# EAGLE library part DSUB-15F (library 000-ece411)
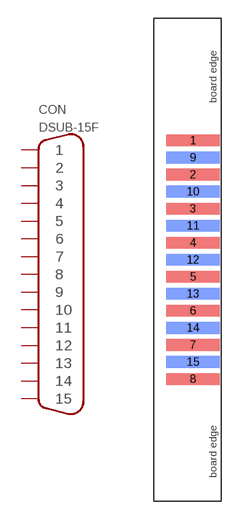
[diagram p2: symbol with the pads of DSUB15F-SOLDER-EDGE; footprint DSUB15F-SOLDER-EDGE]

Designator prefix CON

## DSUB-15F  [DSUB15F-SOLDER-EDGE]
1  1
2  2
3  3
4  4
5  5
6  6
7  7
8  8
9  9
10  10
11  11
12  12
13  13
14  14
15  15

## Footprint DSUB15F-SOLDER-EDGE (pad centres in mm)
Female D-Sub 15, solder cup, edge mounted.
smd 4.35 x 0.95: 1 0,0; 2 0,-2.77; 3 0,-5.54; 4 0,-8.31; 5 0,-11.08; 6 0,-13.85; 7 0,-16.62; 8 0,-19.39
smd 4.35 x 0.95 bottom: 9 0,-1.385; 10 0,-4.155; 11 0,-6.925; 12 0,-9.695; 13 0,-12.465; 14 0,-15.235; 15 0,-18.005